# EAGLE library part MP008253 (library MP008253)
Chip LED, RGB, 5mm x 5mm, 120, 6-Pin, Surface Mount Source: Datasheet
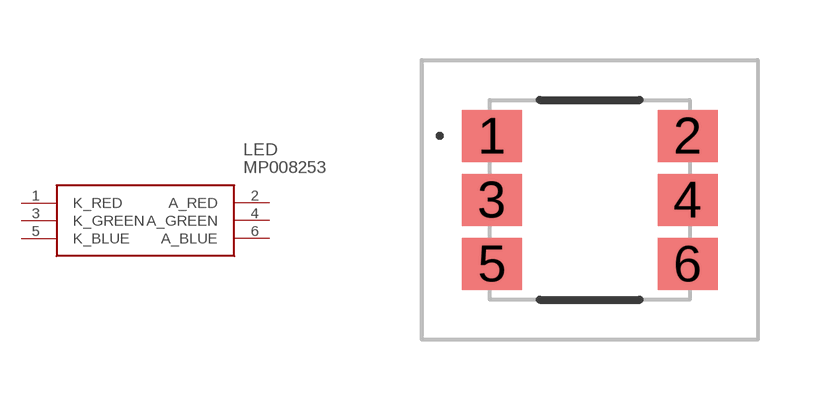
[diagram p0: symbol with the pads of MP008253; footprint MP008253]

Designator prefix LED

## MP008253 (Description: Chip LED, RGB, 5mm x 5mm, 120, 6-Pin, Surface Mount; Height: 1.7mm; Manufacturer_Name: Multicomp Pro; Manufacturer_Part_Number: MP008253)  [MP008253]
1  K_RED
2  A_RED
3  K_GREEN
4  A_GREEN
5  K_BLUE
6  A_BLUE

## Footprint MP008253 (pad centres in mm)
MP008253-1
smd 1.5 x 1.3: 1 -2.45,1.6; 2 2.45,1.6; 3 -2.45,0; 4 2.45,0; 5 -2.45,-1.6; 6 2.45,-1.6